# Altium schematic symbol library ic-rtc.SchLib: 2 symbols
Pins are listed as number, name and electrical type; pins without a type are passive.

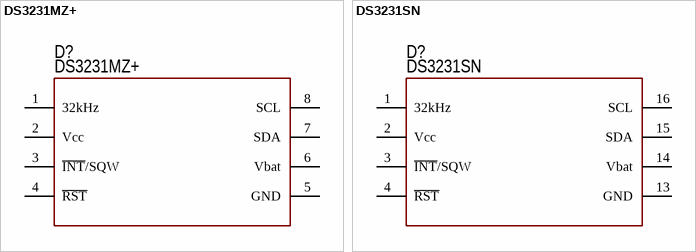
[diagram p0: symbols DS3231MZ+ to DS3231SN]

## DS3231MZ+
designator D?  PartNumber: DS3231MZ+
RTC I2C; Manufacturer: MAXIM; Supply: 2.3...5.5V; Package: SOIC8; ComponentType: RTC I2C; ValueManufacturerPartNumber: =ComponentType+', '+PartNumber+, '+Package; Temperature: -40...+85°C
footprint 8-SOIC (pitch 1.27 mm)
pins: 1 32kHz, 2 Vcc, 3 ~{INT}/SQW, 4 ~{RST}, 5 GND (power), 6 Vbat, 7 SDA, 8 SCL

## DS3231SN
designator D?  PartNumber: DS3231SN
RTC I2C; Manufacturer: MAXIM; Supply: 2.3...5.5V; Package: 16 SO; ComponentType: RTC I2C; ValueManufacturerPartNumber: =ComponentType+', '+PartNumber+, '+Package; Temperature: -40...+85°C
footprint 16-TSSOP (pitch 1.27 mm)
pins: 1 32kHz, 2 Vcc, 3 ~{INT}/SQW, 4 ~{RST}, 5 NC hidden to GND, 6 NC hidden to GND, 7 NC hidden to GND, 8 NC hidden to GND, 9 NC hidden to GND, 10 NC hidden to GND, 11 NC hidden to GND, 12 NC hidden to GND, 13 GND (power), 14 Vbat, 15 SDA, 16 SCL